# Altium footprint library MSOP-10 inverted.PcbLib: 1 footprints
Each footprint in its own frame and in the unit in brackets; x right, y up, seen from the top. Pads: shape width x height; smd on the part's side, far side on the other; paste and mask are expansions set on the pad; w line width, h text height; cw(c..) or ccw(c..) is an arc to the next point about the centre after c.
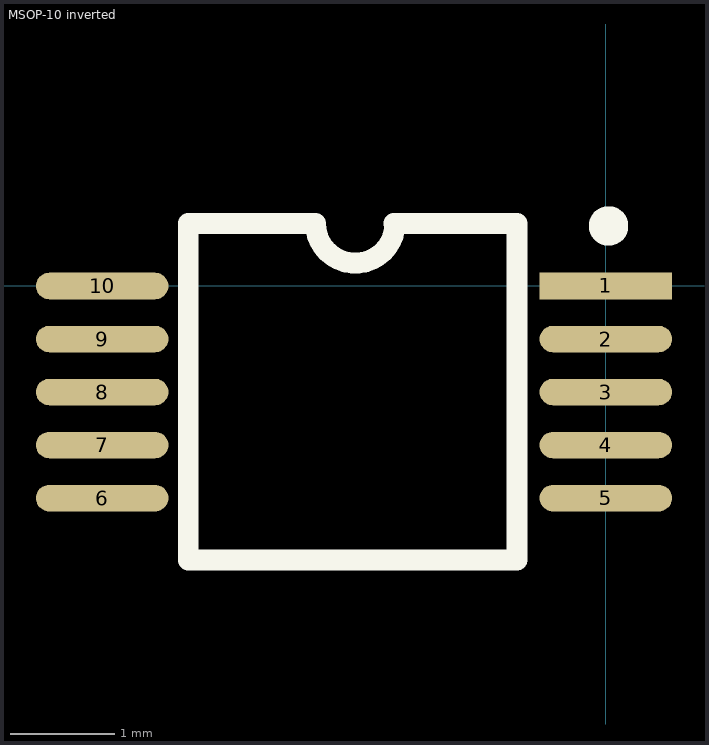
[diagram p0: the footprint, top view; thin cyan lines are the x and y axes]

## MSOP-10 inverted [mil] "10-Lead Mini Small Outline Package"
height 40
pads (10):
  rect 50x10 smd: 1(0,0)
  oval 50x10 smd: 2(0,-20) 3(0,-40) 4(0,-60) 5(0,-80) 6(-190,-80) 7(-190,-60) 8(-190,-40) 9(-190,-20) 10(-190,0)
Top Overlay:
  circle w10: c0.98,22.64 r2.44
  lines w7.87: -110,23.62 -157.52,23.62 -157.52,-103.35 -33.5,-103.35 -33.5,23.62 -80,23.62 ; -109.53,23.62 ccw(c-94.53,23.62) -79.53,23.62
3D body "MSOP-10.STEP": height -0.79, standoff -43.9, extent -196.38,-102.99 6.38,22.99